# Altium footprint library ECE453-Interface.PcbLib: 11 footprints
Each footprint in its own frame and in the unit in brackets; x right, y up, seen from the top. Pads: shape width x height; smd on the part's side, far side on the other; paste and mask are expansions set on the pad; w line width, h text height; cw(c..) or ccw(c..) is an arc to the next point about the centre after c.
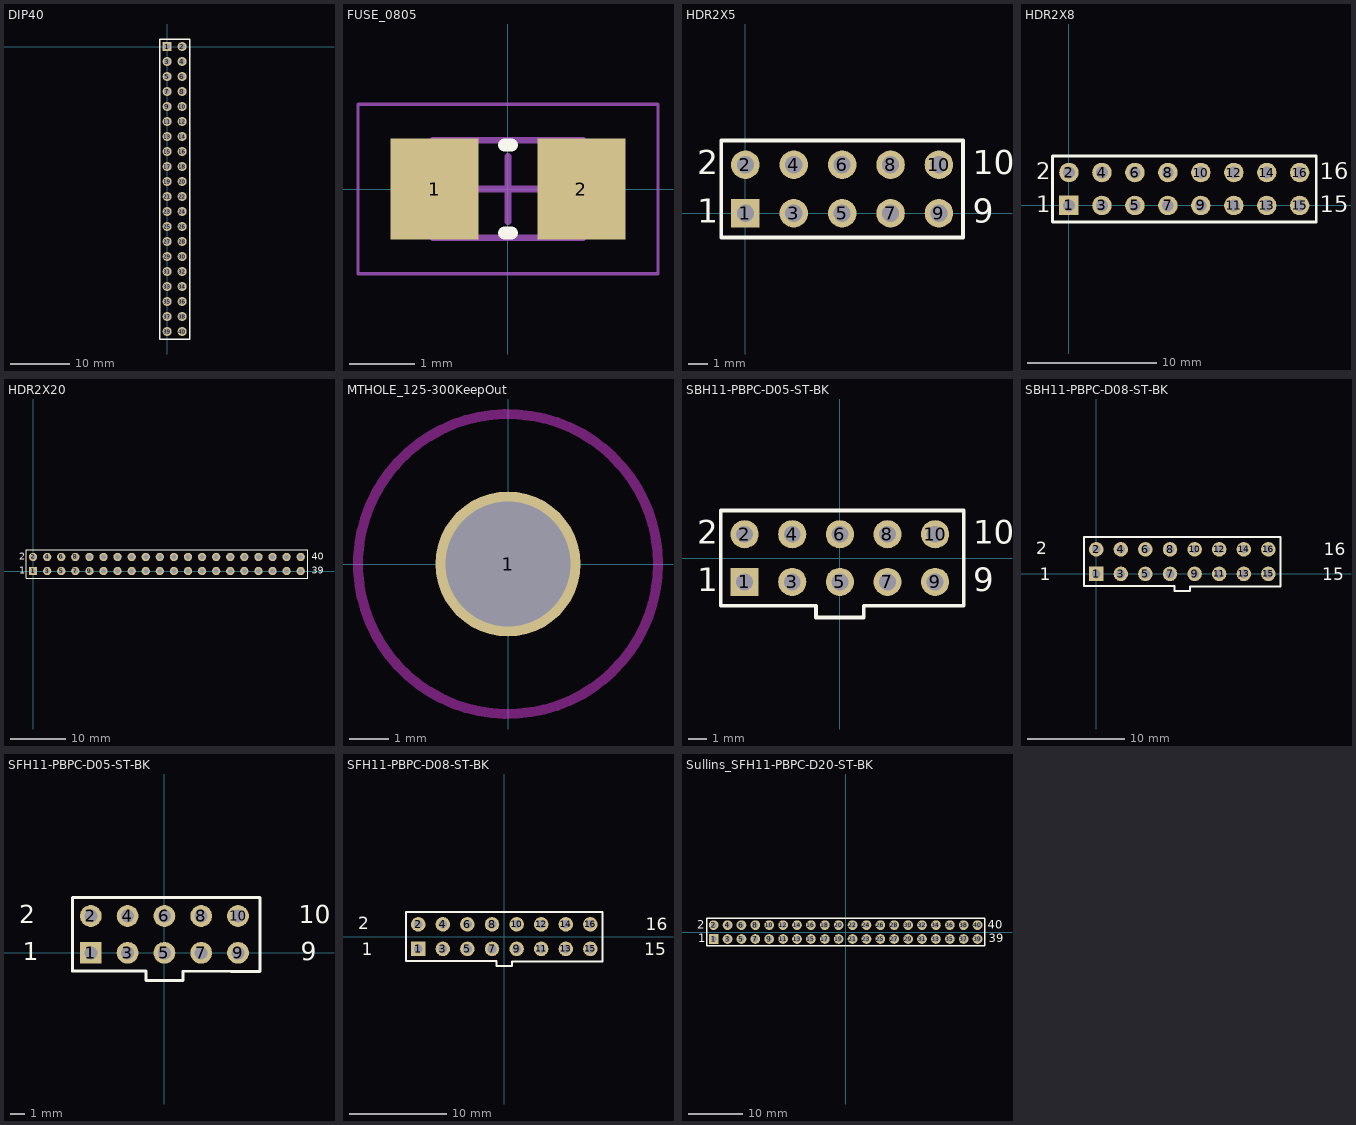
[diagram p0: the footprints below, top view; thin cyan lines are the x and y axes]

## DIP40 [mil]
pads (40):
  rect 60x60 hole 40: 1(0,0)
  round 60 hole 40: 2(100,0) 3(0,-100) 4(100,-100) 5(0,-200) 6(100,-200) 7(0,-300) 8(100,-300) 9(0,-400) 10(100,-400) 11(0,-500) 12(100,-500) 13(0,-600) 14(100,-600) 15(0,-700) 16(100,-700) 17(0,-800) 18(100,-800) 19(0,-900) 20(100,-900) 21(0,-1000) 22(100,-1000) 23(0,-1100) 24(100,-1100) 25(0,-1200) 26(100,-1200) 27(0,-1300) 28(100,-1300) 29(0,-1400) 30(100,-1400) 31(0,-1500) 32(100,-1500) 33(0,-1600) 34(100,-1600) 35(0,-1700) 36(100,-1700) 37(0,-1800) 38(100,-1800) 39(0,-1900) 40(100,-1900)
Top Overlay:
  lines w10: -50,-1950 150,-1950 150,50 -50,50 -50,-1950
Bottom Overlay:
  lines w10: -50,-1050 -125,-1050 -125,-850 -50,-850 ; -50,-1950 150,-1950 150,50 -50,50 -50,-1950
3D body "20x2Header_FEMALE.STEP": height 360.68, standoff -359.4, extent -51.85,-1947.02 145,51.01

## FUSE_0805 [mm] "Chip Fuse, 2-Leads, Body 2.15x1.35mm, IPC Low Density"
height 0.55
pads (2):
  rect 1.35x1.55 smd: 1(-1.125,0) 2(1.125,0)
Top Overlay:
  lines w0.2: -0.05,-0.675 0.05,-0.675 ; -0.05,0.675 0.05,0.675
Mechanical 13:
  lines w0.1: -1.15,-0.75 -1.15,0.75 1.15,0.75 1.15,-0.75 -1.15,-0.75
Mechanical 15:
  lines w0.05: -2.3,-1.3 -2.3,1.3 2.3,1.3 2.3,-1.3 -2.3,-1.3
  lines w0.1: -0.5,0 0.5,0 ; 0,-0.5 0,0.5
3D body: height 0.55, standoff 0, extent -0.75,-0.75 0.75,0.75
3D body: height 0.55, standoff 0, extent -1.15,-0.75 -0.75,0.75
3D body: height 0.55, standoff 0, extent 0.75,-0.75 1.15,0.75

## HDR2X5 [mm] "Connector; Header; 8x2 Position"
pads (10):
  rect 1.5x1.5 hole 0.9: 1(0,0)
  round 1.5 hole 0.9: 2(0,2.54) 3(2.54,0) 4(2.54,2.54) 5(5.08,0) 6(5.08,2.54) 7(7.62,0) 8(7.62,2.54) 9(10.16,0) 10(10.16,2.54)
Top Overlay:
  lines w0.2: -1.27,-1.27 -1.27,3.81 11.43,3.81 11.43,-1.27 -1.27,-1.27
  text "2" at -2.54,2.032 h1.27
  text "1" at -2.54,-0.508 h1.27
  text "9" at 11.938,-0.508 h1.27
  text "10" at 11.938,2.032 h1.27

## HDR2X8 [mm] "Connector; Header; 8x2 Position"
pads (16):
  rect 1.5x1.5 hole 0.9: 1(0,0)
  round 1.5 hole 0.9: 2(0,2.54) 3(2.54,0) 4(2.54,2.54) 5(5.08,0) 6(5.08,2.54) 7(7.62,0) 8(7.62,2.54) 9(10.16,0) 10(10.16,2.54) 11(12.7,0) 12(12.7,2.54) 13(15.24,0) 14(15.24,2.54) 15(17.78,0) 16(17.78,2.54)
Top Overlay:
  lines w0.2: -1.27,-1.27 -1.27,3.81 19.05,3.81 19.05,-1.27 -1.27,-1.27
  text "2" at -2.54,2.032 h1.27
  text "1" at -2.54,-0.508 h1.27
  text "15" at 19.304,-0.508 h1.27
  text "16" at 19.304,2.032 h1.27

## HDR2X20 [mm] "Connector; Header; 20x2 Position"
pads (40):
  rect 1.5x1.5 hole 0.9: 1(0,0)
  round 1.5 hole 0.9: 2(0,2.54) 3(2.54,0) 4(2.54,2.54) 5(5.08,0) 6(5.08,2.54) 7(7.62,0) 8(7.62,2.54) 9(10.16,0) 10(10.16,2.54) 11(12.7,0) 12(12.7,2.54) 13(15.24,0) 14(15.24,2.54) 15(17.78,0) 16(17.78,2.54) 17(20.32,0) 18(20.32,2.54) 19(22.86,0) 20(22.86,2.54) 21(25.4,0) 22(25.4,2.54) 23(27.94,0) 24(27.94,2.54) 25(30.48,0) 26(30.48,2.54) 27(33.02,0) 28(33.02,2.54) 29(35.56,0) 30(35.56,2.54) 31(38.1,0) 32(38.1,2.54) 33(40.64,0) 34(40.64,2.54) 35(43.18,0) 36(43.18,2.54) 37(45.72,0) 38(45.72,2.54) 39(48.26,0) 40(48.26,2.54)
Top Overlay:
  lines w0.2: -1.27,-1.27 -1.27,3.81 49.53,3.81 49.53,-1.27 -1.27,-1.27
  text "39" at 50.292,-0.508 h1.27
  text "40" at 50.292,2.032 h1.27
  text "2" at -2.54,2.032 h1.27
  text "1" at -2.54,-0.508 h1.27
3D body "5x2_male_header.step": height 9.17, standoff -2.87, extent -1.27,-1.219 11.43,3.781
3D body "5x2_male_header.step": height 9.17, standoff -2.87, extent 11.43,-1.219 24.13,3.781
3D body "5x2_male_header.step": height 9.17, standoff -2.87, extent 24.13,-1.219 36.83,3.781
3D body "5x2_male_header.step": height 9.17, standoff -2.87, extent 36.83,-1.219 49.53,3.781

## MTHOLE_125-300KeepOut [mil] "0.125 in Hole w 0.300 Keep Out"
pads (1):
  round 145 / inner round 155 / far side round 145 hole 125: 1(0,0)
Keep-Out Layer:
  circle w10: c0,0 r150

## SBH11-PBPC-D05-ST-BK [mm] "Connector; Header; 5x2 Position"
pads (10):
  rect 1.5x1.5 hole 0.9: 1(-5.08,-1.27)
  round 1.5 hole 0.9: 2(-5.08,1.27) 3(-2.54,-1.27) 4(-2.54,1.27) 5(0,-1.27) 6(0,1.27) 7(2.54,-1.27) 8(2.54,1.27) 9(5.08,-1.27) 10(5.08,1.27)
Top Overlay:
  lines w0.2: -6.35,-2.54 -6.35,2.54 6.604,2.54 6.604,-2.54 ; -6.34,-2.538 -1.27,-2.538 -1.27,-3.175 1.27,-3.175 1.27,-2.54 4.592,-2.54 ; 4.599,-2.547 6.604,-2.547
  text "2" at -7.62,0.762 h1.27
  text "1" at -7.62,-1.778 h1.27
  text "9" at 7.112,-1.778 h1.27
  text "10" at 7.112,0.762 h1.27
3D body "SBH11-_ _ _C-D05-ST-_ _.STEP": height 8.95, standoff -3.15, extent -10.1,-4.445 10.1,4.655

## SBH11-PBPC-D08-ST-BK [mm] "Connector; Header; 8x2 Position"
pads (16):
  rect 1.5x1.5 hole 0.9: 1(0,0)
  round 1.5 hole 0.9: 2(0,2.54) 3(2.54,0) 4(2.54,2.54) 5(5.08,0) 6(5.08,2.54) 7(7.62,0) 8(7.62,2.54) 9(10.16,0) 10(10.16,2.54) 11(12.7,0) 12(12.7,2.54) 13(15.24,0) 14(15.24,2.54) 15(17.78,0) 16(17.78,2.54)
Top Overlay:
  lines w0.2: -1.27,-1.27 -1.27,3.81 19.05,3.81 19.05,-1.27 ; -1.26,-1.268 8.1,-1.268 8.1,-1.758 8.102,-1.756 9.679,-1.756 9.679,-1.277 19.027,-1.277 19.061,-1.243
  text "2" at -6.223,2.032 h1.27
  text "1" at -5.842,-0.635 h1.27
  text "15" at 23.368,-0.635 h1.27
  text "16" at 23.495,1.905 h1.27
3D body "SBH11-_ _ _C-D08-ST-_ _.STEP": height 9.3, standoff -2.8, extent -4.959,-3.196 22.861,5.904

## SFH11-PBPC-D05-ST-BK [mm] "CONN HEADR FMALE 10POS .1\" DL AU"
pads (10):
  rect 1.5x1.5 hole 0.9: 1(-5.08,0)
  round 1.5 hole 0.9: 2(-5.08,2.54) 3(-2.54,0) 4(-2.54,2.54) 5(0,0) 6(0,2.54) 7(2.54,0) 8(2.54,2.54) 9(5.08,0) 10(5.08,2.54)
Top Overlay:
  lines w0.2: -6.35,-1.27 -6.35,3.81 6.604,3.81 6.604,-1.27 ; -6.34,-1.268 -1.27,-1.268 -1.27,-1.905 1.27,-1.905 1.27,-1.27 4.592,-1.27 ; 4.599,-1.277 6.604,-1.277
  text "10" at 9.271,2.032 h1.27
  text "9" at 9.398,-0.508 h1.27
  text "1" at -9.779,-0.508 h1.27
  text "2" at -10.033,2.032 h1.27
3D body "SFH11-P_ _C-D05-ST-_ _.STEP": height 8.85, standoff -2.85, extent -8.763,-2.611 9.017,4.389

## SFH11-PBPC-D08-ST-BK [mm] "CONN HEADR FMALE 16POS .1\" DL AU"
pads (16):
  rect 1.5x1.5 hole 0.9: 1(-8.89,-1.27)
  round 1.5 hole 0.9: 2(-8.89,1.27) 3(-6.35,-1.27) 4(-6.35,1.27) 5(-3.81,-1.27) 6(-3.81,1.27) 7(-1.27,-1.27) 8(-1.27,1.27) 9(1.27,-1.27) 10(1.27,1.27) 11(3.81,-1.27) 12(3.81,1.27) 13(6.35,-1.27) 14(6.35,1.27) 15(8.89,-1.27) 16(8.89,1.27)
Top Overlay:
  lines w0.2: -10.16,-2.54 -10.16,2.54 10.16,2.54 10.16,-2.54 ; -10.15,-2.538 -0.79,-2.538 -0.79,-3.028 -0.788,-3.026 0.789,-3.026 0.789,-2.547 10.137,-2.547 10.171,-2.513
  text "16" at 14.605,0.635 h1.27
  text "15" at 14.478,-1.905 h1.27
  text "1" at -14.732,-1.905 h1.27
  text "2" at -15.113,0.762 h1.27
3D body "SFH11-P_ _C-D08-ST-_ _.STEP": height 8.85, standoff -2.85, extent -12.573,-4.135 12.827,2.865

## Sullins_SFH11-PBPC-D20-ST-BK [mil] "CONN HEADER .100\" 40 POS"
height 335
pads (40):
  rect 70x70 hole 40: 1(-950,-50)
  round 70 hole 40: 2(-950,50) 3(-850,-50) 4(-850,50) 5(-750,-50) 6(-750,50) 7(-650,-50) 8(-650,50) 9(-550,-50) 10(-550,50) 11(-450,-50) 12(-450,50) 13(-350,-50) 14(-350,50) 15(-250,-50) 16(-250,50) 17(-150,-50) 18(-150,50) 19(-50,-50) 20(-50,50) 21(50,-50) 22(50,50) 23(150,-50) 24(150,50) 25(250,-50) 26(250,50) 27(350,-50) 28(350,50) 29(450,-50) 30(450,50) 31(550,-50) 32(550,50) 33(650,-50) 34(650,50) 35(750,-50) 36(750,50) 37(850,-50) 38(850,50) 39(950,-50) 40(950,50)
Top Overlay:
  lines w10: -1000,-100 1000,-100 1000,100 -1000,100 -1000,-100
  text "39" at 1030,-75 h60
  text "40" at 1025,25 h60
  text "2" at -1070,25 h60
  text "1" at -1060,-75 h60
Bottom Overlay:
  lines w10: -100,-100 -100,-200 100,-200 100,-100 ; 750,100 1000,100 1000,-100 -1000,-100 ; 800,100 -1000,100 ; -1000,-100 -1000,100 ; -1000,-100 -1000,100
Mechanical 15:
  text "+" at -20,-30 h60
3D body "Sullins40pinFemale.STEP": height 349.4, standoff -370.68, extent -999.01,-96.85 999.01,100